# Altium schematic symbol library resistors_m.SchLib: 5 symbols
Pins are listed as number, name and electrical type; pins without a type are passive.

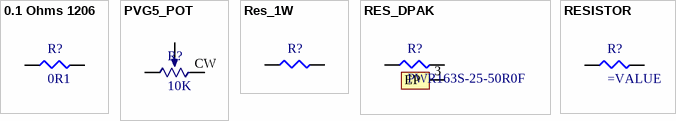
[diagram p0: symbols 0.1 Ohms 1206 to RESISTOR]

## 0.1 Ohms 1206
designator R?, comment 0R1
0.1 OHM 1206 RESISTOR
footprint SMD-1206
pins: 1, 2

## PVG5_POT
designator R?, comment 10K
PARTNUMBER: PVG5A; VALUE: 10K
footprint PVG5A (Vertical SMD potentiometer); pin to pad CCW>1 CW>3 W>2
pins: CCW 1, CW 3, W 2

## Res_1W
designator R?  (value not drawn)
footprint Res. axial pwr 1W
pins: 1, 2

## RES_DPAK
designator R?, comment PWR163S-25-50R0F
RES SMD 50 OHM 1% 25W DPAK; Supplier 1: Digi-Key; Supplier 2: Newark; Supplier Part Number 1: PWR163S-25-50R0F-ND; Supplier Part Number 2: 06X6687
footprint DPAK
pins: 1, 2, 3 EP

## RESISTOR
designator R?
pins: 1, 2